# EAGLE library part ARDUINO_CONN-ICSP (library arduino_jw)
Arduino ICSP I/O Header This is the ICSP I/O header on the Arduino Uno R3. This connector is labeled with the following pin assignments: MISO +5V SCK MOSI RESET GND NOTE: Be sure you install this connector with the correct orientation on your PCB layout. Pin 1 has a square pad to assist with orientation.
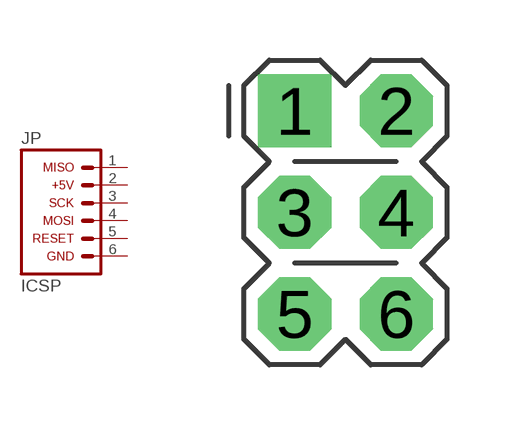
[diagram p4: symbol with the pads of CONN-2X03; footprint CONN-2X03]

Designator prefix JP

## ARDUINO_CONN-ICSP  [CONN-2X03]
1  1  pas
2  2  pas
3  3  pas
4  4  pas
5  5  pas
6  6  pas

## Footprint CONN-2X03 (pad centres in mm)
2x3 DIP header with pin 1 marked by a square pad.
drill 1.2 pad 1.829 square: 1 0,0
drill 1.2 pad 1.829 octagon: 2 2.54,0; 3 0,-2.54; 4 2.54,-2.54; 5 0,-5.08; 6 2.54,-5.08